# Altium schematic symbol library Switch.Schlib: 1 symbol
Pins are listed as number, name and electrical type; pins without a type are passive.

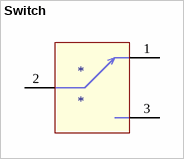
[diagram p0: symbol Switch]

## Switch
designator *
pins: 1, 2 0, 3 2